# Altium integrated library ECS-TXO-3225MV-320-TR.IntLib: 1 symbol
Pins are listed as number, name and electrical type; pins without a type are passive.

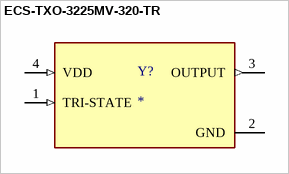
[diagram p0: symbol ECS-TXO-3225MV-320-TR]

## ECS-TXO-3225MV-320-TR
designator Y?
TCXO Oscillators 32.000 MHZ Multi-Volt +1.7 3.6V HCMOS TCXO +/-2.5 ppm -30 +85 C 3.2x 2.5mm RoHS; MF: ECS; MP: ECS-TXO-3225MV-320-TR; SnapEDA_Link: https://www.snapeda.com/parts/ECS-TXO-3225MV-320-TR/ECS/view-part/?ref=snap; Package: ECS-TXO-3225MV-0-4 ECS; Value: *; Check_prices: https://www.snapeda.com/parts/ECS-TXO-3225MV-320-TR/ECS/view-part/?ref=eda
footprint OSC_ECS-TXO-3225MV-320-TR
pins: 1 TRI-STATE (in), 2 GND (power), 3 OUTPUT (out), 4 VDD (in)